# Altium footprint library 686 1xx 148 922.PcbLib: 15 footprints
Each footprint in its own frame and in the unit in brackets; x right, y up, seen from the top. Pads: shape width x height; smd on the part's side, far side on the other; paste and mask are expansions set on the pad; w line width, h text height; cw(c..) or ccw(c..) is an arc to the next point about the centre after c.
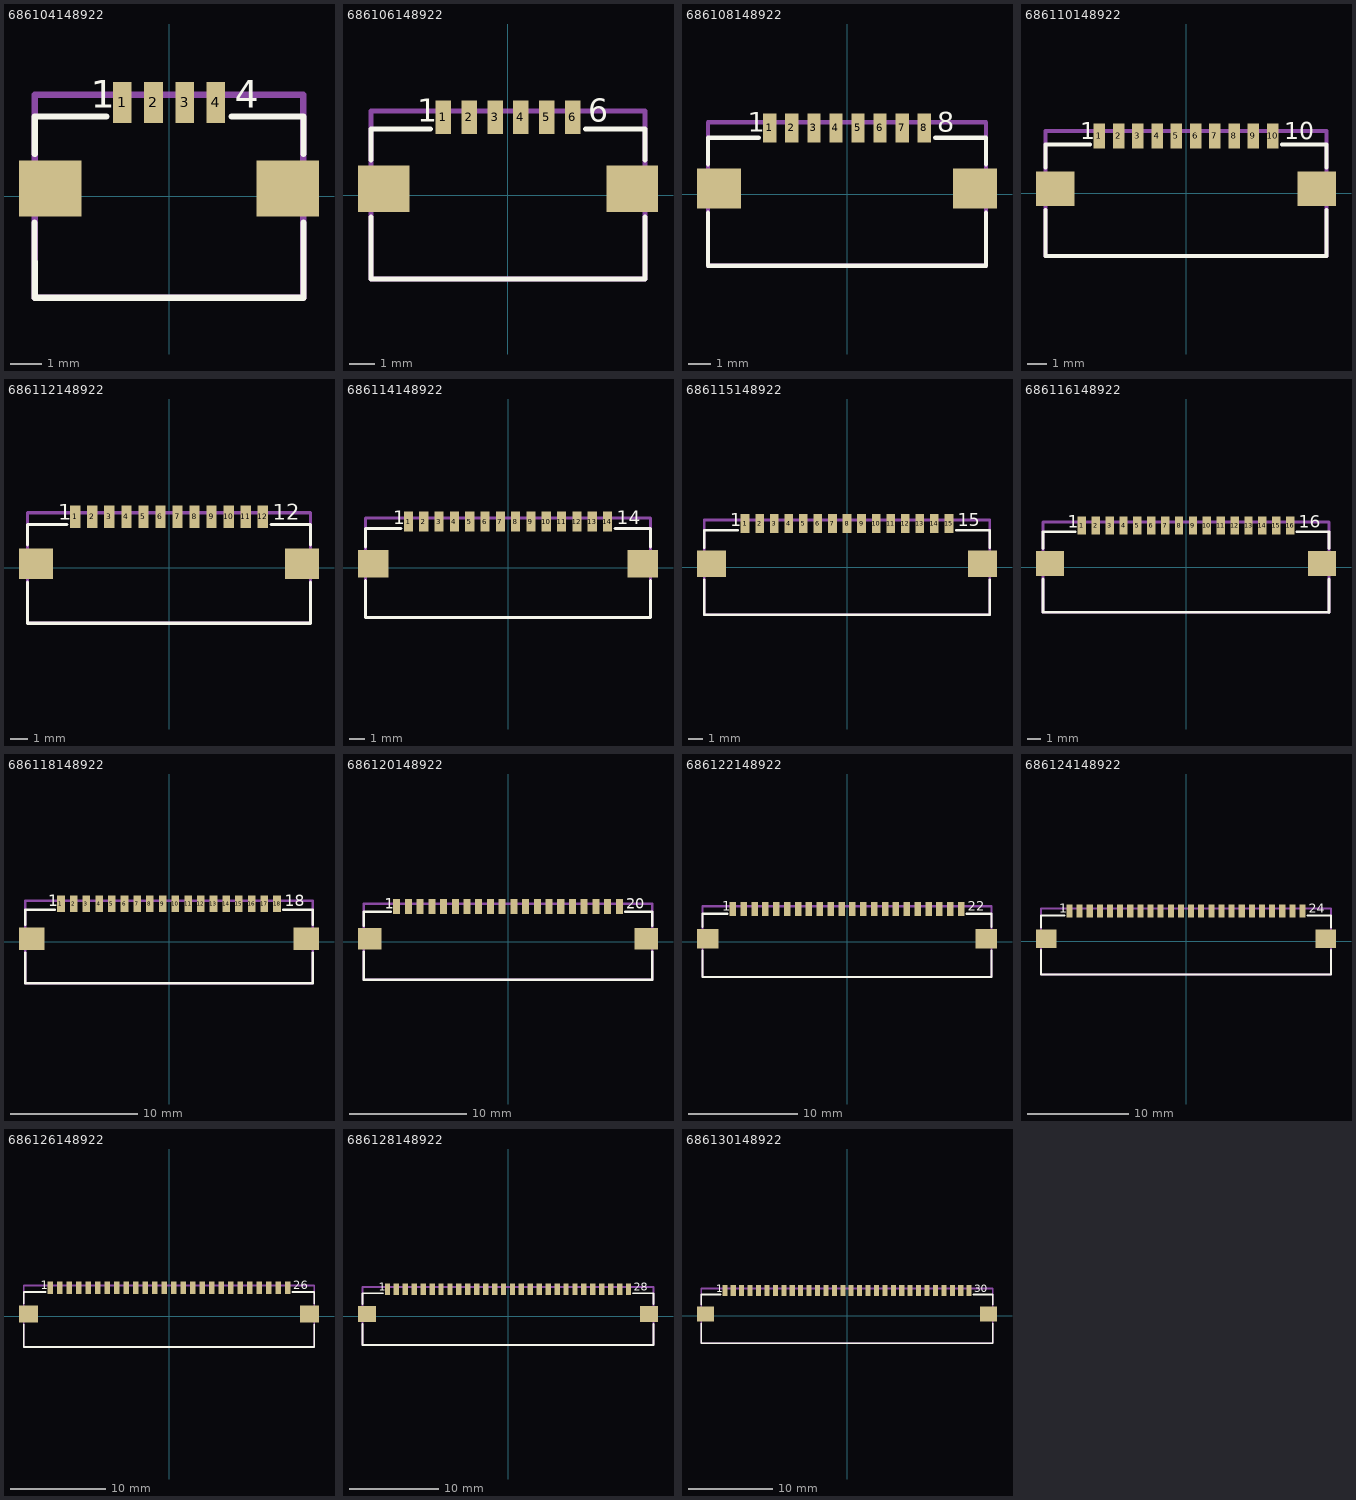
[diagram p0: the footprints below, top view; thin cyan lines are the x and y axes]

## 686104148922 [mm] "SMT ZIF Horizontal - Bottom Contact - 1.00 mm Hinge Type, 4p"
height 2.2
pads (6):
  rect 0.6x1.3 smd: 1(-1.5,3) 2(-0.5,3) 3(0.5,3) 4(1.5,3)
  rect 2x1.8 smd: ""(-3.8,0.25) ""(3.8,0.25)
Top Overlay:
  lines w0.2: -4.3,-0.85 -4.3,-3.25 4.3,-3.25 4.3,-0.85 ; -4.3,1.35 -4.3,2.55 -2,2.55 ; 2,2.55 4.3,2.55 4.3,1.35
  text "4" at 2.1,2.825 h0.89
  text "1" at -2.5,2.825 h0.89
Mechanical 13:
  lines w0.2: -4.3,-3.25 4.3,-3.25 4.3,3.25 -4.3,3.25 -4.3,-3.25
3D body "686104148922.stp": height 2.25, standoff 0, extent -4.3,-3.25 4.3,3.25

## 686106148922 [mm] "SMT ZIF Horizontal - Bottom Contact - 1.00 mm Hinge Type, 6p"
height 2.2
pads (8):
  rect 0.6x1.3 smd: 1(-2.5,3) 2(-1.5,3) 3(-0.5,3) 4(0.5,3) 5(1.5,3) 6(2.5,3)
  rect 2x1.8 smd: ""(-4.8,0.25) ""(4.8,0.25)
Top Overlay:
  lines w0.2: -5.3,-0.85 -5.3,-3.25 5.3,-3.25 5.3,-0.85 ; -5.3,1.35 -5.3,2.55 -3,2.55 ; 3,2.55 5.3,2.55 5.3,1.35
  text "6" at 3.1,2.825 h0.89
  text "1" at -3.5,2.825 h0.89
Mechanical 13:
  lines w0.2: -5.3,-3.25 -5.3,3.25 5.3,3.25 5.3,-3.25 -5.3,-3.25
3D body "686106148922.stp": height 2.25, standoff 0, extent -5.3,-3.25 5.3,3.25

## 686108148922 [mm] "SMT ZIF Horizontal - Bottom Contact - 1.00 mm Hinge Type, 8p"
height 2.2
pads (10):
  rect 0.6x1.3 smd: 1(-3.5,3) 2(-2.5,3) 3(-1.5,3) 4(-0.5,3) 5(0.5,3) 6(1.5,3) 7(2.5,3) 8(3.5,3)
  rect 2x1.8 smd: ""(-5.8,0.25) ""(5.8,0.25)
Top Overlay:
  lines w0.2: -6.3,-0.85 -6.3,-3.25 6.3,-3.25 6.3,-0.85 ; -6.3,1.35 -6.3,2.55 -4,2.55 ; 4,2.55 6.3,2.55 6.3,1.35
  text "1" at -4.5,2.825 h0.89
  text "8" at 4.1,2.825 h0.89
Mechanical 13:
  lines w0.2: -6.3,-3.25 6.3,-3.25 6.3,3.25 -6.3,3.25 -6.3,-3.25
3D body "686108148922.stp": height 2.25, standoff 0, extent -6.3,-3.25 6.3,3.25

## 686110148922 [mm] "SMT ZIF Horizontal - Bottom Contact - 1.00 mm Hinge Type, 10p"
height 2.2
pads (12):
  rect 0.6x1.3 smd: 1(-4.5,3) 2(-3.5,3) 3(-2.5,3) 4(-1.5,3) 5(-0.5,3) 6(0.5,3) 7(1.5,3) 8(2.5,3) 9(3.5,3) 10(4.5,3)
  rect 2x1.8 smd: ""(-6.8,0.25) ""(6.8,0.25)
Top Overlay:
  lines w0.2: -7.3,-0.85 -7.3,-3.25 7.3,-3.25 7.3,-0.85 ; -7.3,1.35 -7.3,2.55 -5,2.55 ; 5,2.55 7.3,2.55 7.3,1.35
  text "10" at 5.1,2.825 h0.89
  text "1" at -5.5,2.825 h0.89
Mechanical 13:
  lines w0.2: -7.3,-3.25 -7.3,3.25 7.3,3.25 7.3,-3.25 -7.3,-3.25
3D body "686110148922.stp": height 2.25, standoff 0, extent -7.3,-3.25 7.3,3.25

## 686112148922 [mm] "SMT ZIF Horizontal - Bottom Contact - 1.00 mm Hinge Type, 12p"
height 2.2
pads (14):
  rect 0.6x1.3 smd: 1(-5.5,3) 2(-4.5,3) 3(-3.5,3) 4(-2.5,3) 5(-1.5,3) 6(-0.5,3) 7(0.5,3) 8(1.5,3) 9(2.5,3) 10(3.5,3) 11(4.5,3) 12(5.5,3)
  rect 2x1.8 smd: ""(-7.8,0.25) ""(7.8,0.25)
Top Overlay:
  lines w0.2: -8.3,-0.85 -8.3,-3.25 8.3,-3.25 8.3,-0.85 ; -8.3,1.35 -8.3,2.55 -6,2.55 ; 6,2.55 8.3,2.55 8.3,1.35
  text "12" at 6.1,2.825 h0.89
  text "1" at -6.5,2.825 h0.89
Mechanical 13:
  lines w0.2: -8.3,-3.25 -8.3,3.25 8.3,3.25 8.3,-3.25 -8.3,-3.25
3D body "686112148922.stp": height 2.25, standoff 0, extent -8.3,-3.25 8.3,3.25

## 686114148922 [mm] "SMT ZIF Horizontal - Bottom Contact - 1.00 mm Hinge Type, 14p"
height 2.2
pads (16):
  rect 0.6x1.3 smd: 1(-6.5,3) 2(-5.5,3) 3(-4.5,3) 4(-3.5,3) 5(-2.5,3) 6(-1.5,3) 7(-0.5,3) 8(0.5,3) 9(1.5,3) 10(2.5,3) 11(3.5,3) 12(4.5,3) 13(5.5,3) 14(6.5,3)
  rect 2x1.8 smd: ""(-8.8,0.25) ""(8.8,0.25)
Top Overlay:
  lines w0.2: -9.3,-0.85 -9.3,-3.25 9.3,-3.25 9.3,-0.85 ; -9.3,1.35 -9.3,2.55 -7,2.55 ; 7,2.55 9.3,2.55 9.3,1.35
  text "1" at -7.5,2.825 h0.89
  text "14" at 7.1,2.825 h0.89
Mechanical 13:
  lines w0.2: -9.3,-3.25 9.3,-3.25 9.3,3.25 -9.3,3.25 -9.3,-3.25
3D body "686114148922.stp": height 2.25, standoff 0, extent -9.3,-3.25 9.3,3.25

## 686115148922 [mm] "SMT ZIF Horizontal - Bottom Contact - 1.00 mm Hinge Type, 15p"
height 2.2
pads (17):
  rect 0.6x1.3 smd: 1(-7,3) 2(-6,3) 3(-5,3) 4(-4,3) 5(-3,3) 6(-2,3) 7(-1,3) 8(0,3) 9(1,3) 10(2,3) 11(3,3) 12(4,3) 13(5,3) 14(6,3) 15(7,3)
  rect 2x1.8 smd: ""(-9.3,0.25) ""(9.3,0.25)
Top Overlay:
  lines w0.2: -9.8,-0.85 -9.8,-3.25 9.8,-3.25 9.8,-0.85 ; -9.8,1.35 -9.8,2.55 -7.5,2.55 ; 7.5,2.55 9.8,2.55 9.8,1.35
  text "1" at -8,2.825 h0.89
  text "15" at 7.6,2.825 h0.89
Mechanical 13:
  lines w0.2: -9.8,-3.25 9.8,-3.25 9.8,3.25 -9.8,3.25 -9.8,-3.25
3D body "686115148922.stp": height 2.25, standoff 0, extent -9.8,-3.25 9.8,3.25

## 686116148922 [mm] "SMT ZIF Horizontal - Bottom Contact - 1.00 mm Hinge Type, 16p"
height 2.2
pads (18):
  rect 0.6x1.3 smd: 1(-7.5,3) 2(-6.5,3) 3(-5.5,3) 4(-4.5,3) 5(-3.5,3) 6(-2.5,3) 7(-1.5,3) 8(-0.5,3) 9(0.5,3) 10(1.5,3) 11(2.5,3) 12(3.5,3) 13(4.5,3) 14(5.5,3) 15(6.5,3) 16(7.5,3)
  rect 2x1.8 smd: ""(-9.8,0.25) ""(9.8,0.25)
Top Overlay:
  lines w0.2: -10.3,-0.85 -10.3,-3.25 10.3,-3.25 10.3,-0.85 ; -10.3,1.35 -10.3,2.55 -8,2.55 ; 8,2.55 10.3,2.55 10.3,1.35
  text "1" at -8.5,2.825 h0.89
  text "16" at 8.1,2.825 h0.89
Mechanical 13:
  lines w0.2: -10.3,-3.25 10.3,-3.25 10.3,3.25 -10.3,3.25 -10.3,-3.25
3D body "686116148922.stp": height 2.25, standoff 0, extent -10.3,-3.25 10.3,3.25

## 686118148922 [mm] "SMT ZIF Horizontal - Bottom Contact - 1.00 mm Hinge Type, 18p"
height 2.2
pads (20):
  rect 0.6x1.3 smd: 1(-8.5,3) 2(-7.5,3) 3(-6.5,3) 4(-5.5,3) 5(-4.5,3) 6(-3.5,3) 7(-2.5,3) 8(-1.5,3) 9(-0.5,3) 10(0.5,3) 11(1.5,3) 12(2.5,3) 13(3.5,3) 14(4.5,3) 15(5.5,3) 16(6.5,3) 17(7.5,3) 18(8.5,3)
  rect 2x1.8 smd: ""(-10.8,0.25) ""(10.8,0.25)
Top Overlay:
  lines w0.2: -11.3,-0.85 -11.3,-3.25 11.3,-3.25 11.3,-0.85 ; -11.3,1.35 -11.3,2.55 -9,2.55 ; 9,2.55 11.3,2.55 11.3,1.35
  text "18" at 9.1,2.825 h0.89
  text "1" at -9.5,2.825 h0.89
Mechanical 13:
  lines w0.2: -11.3,-3.25 -11.3,3.25 11.3,3.25 11.3,-3.25 -11.3,-3.25
3D body "686118148922.stp": height 2.25, standoff 0, extent -11.3,-3.25 11.3,3.25

## 686120148922 [mm] "SMT ZIF Horizontal - Bottom Contact - 1.00 mm Hinge Type, 20p"
height 2.2
pads (22):
  rect 0.6x1.3 smd: 1(-9.5,3) 2(-8.5,3) 3(-7.5,3) 4(-6.5,3) 5(-5.5,3) 6(-4.5,3) 7(-3.5,3) 8(-2.5,3) 9(-1.5,3) 10(-0.5,3) 11(0.5,3) 12(1.5,3) 13(2.5,3) 14(3.5,3) 15(4.5,3) 16(5.5,3) 17(6.5,3) 18(7.5,3) 19(8.5,3) 20(9.5,3)
  rect 2x1.8 smd: ""(-11.8,0.25) ""(11.8,0.25)
Top Overlay:
  lines w0.2: -12.3,-0.85 -12.3,-3.25 12.3,-3.25 12.3,-0.85 ; -12.3,1.35 -12.3,2.55 -10,2.55 ; 10,2.55 12.3,2.55 12.3,1.35
  text "20" at 10.1,2.825 h0.89
  text "1" at -10.5,2.825 h0.89
Mechanical 13:
  lines w0.2: -12.3,-3.25 -12.3,3.25 12.3,3.25 12.3,-3.25 -12.3,-3.25
3D body "686120148922.stp": height 2.25, standoff 0, extent -12.3,-3.25 12.3,3.25

## 686122148922 [mm] "SMT ZIF Horizontal - Bottom Contact - 1.00 mm Hinge Type, 22p"
height 2.2
pads (24):
  rect 0.6x1.3 smd: 1(-10.5,3) 2(-9.5,3) 3(-8.5,3) 4(-7.5,3) 5(-6.5,3) 6(-5.5,3) 7(-4.5,3) 8(-3.5,3) 9(-2.5,3) 10(-1.5,3) 11(-0.5,3) 12(0.5,3) 13(1.5,3) 14(2.5,3) 15(3.5,3) 16(4.5,3) 17(5.5,3) 18(6.5,3) 19(7.5,3) 20(8.5,3) 21(9.5,3) 22(10.5,3)
  rect 2x1.8 smd: ""(-12.8,0.25) ""(12.8,0.25)
Top Overlay:
  lines w0.2: -13.3,-0.85 -13.3,-3.25 13.3,-3.25 13.3,-0.85 ; -13.3,1.35 -13.3,2.55 -11,2.55 ; 11,2.55 13.3,2.55 13.3,1.35
  text "22" at 11.1,2.825 h0.89
  text "1" at -11.5,2.825 h0.89
Mechanical 13:
  lines w0.2: -13.3,-3.25 -13.3,3.25 13.3,3.25 13.3,-3.25 -13.3,-3.25
3D body "686122148922.stp": height 2.25, standoff 0, extent -13.3,-3.25 13.3,3.25

## 686124148922 [mm] "SMT ZIF Horizontal - Bottom Contact - 1.00 mm Hinge Type, 24p"
height 2.2
pads (26):
  rect 0.6x1.3 smd: 1(-11.5,3) 2(-10.5,3) 3(-9.5,3) 4(-8.5,3) 5(-7.5,3) 6(-6.5,3) 7(-5.5,3) 8(-4.5,3) 9(-3.5,3) 10(-2.5,3) 11(-1.5,3) 12(-0.5,3) 13(0.5,3) 14(1.5,3) 15(2.5,3) 16(3.5,3) 17(4.5,3) 18(5.5,3) 19(6.5,3) 20(7.5,3) 21(8.5,3) 22(9.5,3) 23(10.5,3) 24(11.5,3)
  rect 2x1.8 smd: ""(-13.8,0.25) ""(13.8,0.25)
Top Overlay:
  lines w0.2: -14.3,-0.85 -14.3,-3.25 14.3,-3.25 14.3,-0.85 ; -14.3,1.35 -14.3,2.55 -12,2.55 ; 12,2.55 14.3,2.55 14.3,1.35
  text "1" at -12.5,2.825 h0.89
  text "24" at 12.1,2.825 h0.89
Mechanical 13:
  lines w0.2: -14.3,-3.25 14.3,-3.25 14.3,3.25 -14.3,3.25 -14.3,-3.25
3D body "686124148922.stp": height 2.25, standoff 0, extent -14.3,-3.25 14.3,3.25

## 686126148922 [mm] "SMT ZIF Horizontal - Bottom Contact - 1.00 mm Hinge Type, 26p"
height 2.2
pads (28):
  rect 0.6x1.3 smd: 1(-12.5,3) 2(-11.5,3) 3(-10.5,3) 4(-9.5,3) 5(-8.5,3) 6(-7.5,3) 7(-6.5,3) 8(-5.5,3) 9(-4.5,3) 10(-3.5,3) 11(-2.5,3) 12(-1.5,3) 13(-0.5,3) 14(0.5,3) 15(1.5,3) 16(2.5,3) 17(3.5,3) 18(4.5,3) 19(5.5,3) 20(6.5,3) 21(7.5,3) 22(8.5,3) 23(9.5,3) 24(10.5,3) 25(11.5,3) 26(12.5,3)
  rect 2x1.8 smd: ""(-14.8,0.25) ""(14.8,0.25)
Top Overlay:
  lines w0.2: -15.3,-0.85 -15.3,-3.25 15.3,-3.25 15.3,-0.85 ; -15.3,1.35 -15.3,2.55 -13,2.55 ; 13,2.55 15.3,2.55 15.3,1.35
  text "26" at 13.1,2.825 h0.89
  text "1" at -13.5,2.825 h0.89
Mechanical 13:
  lines w0.2: -15.3,-3.25 -15.3,3.25 15.3,3.25 15.3,-3.25 -15.3,-3.25
3D body "686126148922.stp": height 2.25, standoff 0, extent -15.3,-3.25 15.3,3.25

## 686128148922 [mm] "SMT ZIF Horizontal - Bottom Contact - 1.00 mm Hinge Type, 28p"
height 2.2
pads (30):
  rect 0.6x1.3 smd: 1(-13.5,3) 2(-12.5,3) 3(-11.5,3) 4(-10.5,3) 5(-9.5,3) 6(-8.5,3) 7(-7.5,3) 8(-6.5,3) 9(-5.5,3) 10(-4.5,3) 11(-3.5,3) 12(-2.5,3) 13(-1.5,3) 14(-0.5,3) 15(0.5,3) 16(1.5,3) 17(2.5,3) 18(3.5,3) 19(4.5,3) 20(5.5,3) 21(6.5,3) 22(7.5,3) 23(8.5,3) 24(9.5,3) 25(10.5,3) 26(11.5,3) 27(12.5,3) 28(13.5,3)
  rect 2x1.8 smd: ""(-15.8,0.25) ""(15.8,0.25)
Top Overlay:
  lines w0.2: -16.3,-0.85 -16.3,-3.25 16.3,-3.25 16.3,-0.85 ; -16.3,1.35 -16.3,2.55 -14,2.55 ; 14,2.55 16.3,2.55 16.3,1.35
  text "28" at 14.1,2.825 h0.89
  text "1" at -14.5,2.825 h0.89
Mechanical 13:
  lines w0.2: -16.3,-3.25 -16.3,3.25 16.3,3.25 16.3,-3.25 -16.3,-3.25
3D body "686128148922.stp": height 2.25, standoff 0, extent -16.3,-3.25 16.3,3.25

## 686130148922 [mm] "SMT ZIF Horizontal - Bottom Contact - 1.00 mm Hinge Type, 30p"
height 2.2
pads (32):
  rect 0.6x1.3 smd: 1(-14.5,3) 2(-13.5,3) 3(-12.5,3) 4(-11.5,3) 5(-10.5,3) 6(-9.5,3) 7(-8.5,3) 8(-7.5,3) 9(-6.5,3) 10(-5.5,3) 11(-4.5,3) 12(-3.5,3) 13(-2.5,3) 14(-1.5,3) 15(-0.5,3) 16(0.5,3) 17(1.5,3) 18(2.5,3) 19(3.5,3) 20(4.5,3) 21(5.5,3) 22(6.5,3) 23(7.5,3) 24(8.5,3) 25(9.5,3) 26(10.5,3) 27(11.5,3) 28(12.5,3) 29(13.5,3) 30(14.5,3)
  rect 2x1.8 smd: ""(-16.8,0.25) ""(16.8,0.25)
Top Overlay:
  lines w0.2: -17.3,-0.85 -17.3,-3.25 17.3,-3.25 17.3,-0.85 ; -17.3,1.35 -17.3,2.55 -15,2.55 ; 15,2.55 17.3,2.55 17.3,1.35
  text "30" at 15.1,2.825 h0.89
  text "1" at -15.5,2.825 h0.89
Mechanical 13:
  lines w0.2: -17.3,-3.25 -17.3,3.25 17.3,3.25 17.3,-3.25 -17.3,-3.25
3D body "686130148922.stp": height 2.25, standoff 0, extent -17.3,-3.25 17.3,3.25